# Altium schematic symbol library 221AMC16R.SchLib: 1 symbol
Pins are listed as number, name and electrical type; pins without a type are passive.

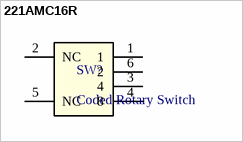
[diagram p0: symbol 221AMC16R]

## 221AMC16R
designator SW?, comment Coded Rotary Switch
Number of positions: 16; Output code: Hexadecimal; Voltage rating: 50 V; Current rating: 100 mA; Link: https://hu.mouser.com/ProductDetail/CTS-Electronic-Components/221AMC16R?qs=%252BiOMRfgENTE0%252BGMxeYu5rQ%3D%3D
footprint 221AMC16R
pins: 1, 2 NC, 3 4, 4 8, 5 NC, 6 2